# EAGLE library part ESP (library pcaroli)
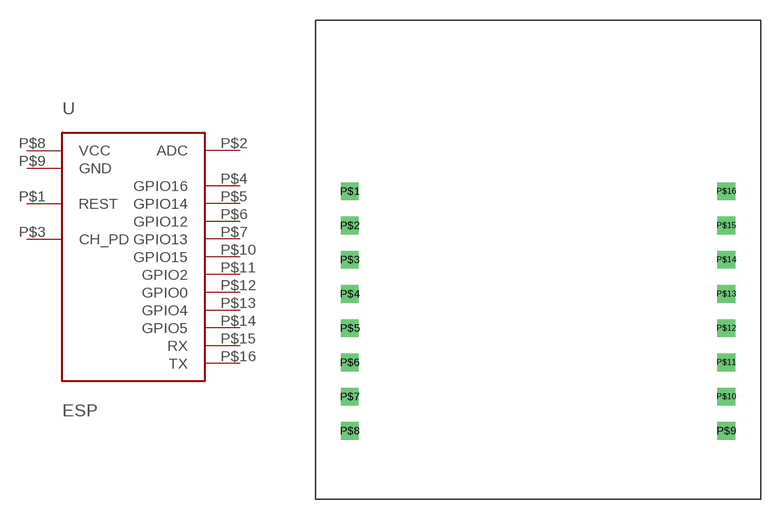
[diagram p11: symbol with the pads of ESP-WITTY; footprint ESP-WITTY]

Designator prefix -

## ESP  [ESP-WITTY]
P$1  REST
P$2  ADC
P$3  CH_PD
P$4  GPIO16
P$5  GPIO14
P$6  GPIO12
P$7  GPIO13
P$8  VCC
P$9  GND
P$10  GPIO15
P$11  GPIO2
P$12  GPIO0
P$13  GPIO4
P$14  GPIO5
P$15  RX
P$16  TX

## Footprint ESP-WITTY (pad centres in mm)
drill 0.8 square: P$1 0,0; P$2 0,-2.54; P$3 0,-5.08; P$4 0,-7.62; P$5 0,-10.16; P$6 0,-12.7; P$7 0,-15.24; P$8 0,-17.78; P$9 27.94,-17.78; P$10 27.94,-15.24; P$11 27.94,-12.7; P$12 27.94,-10.16; P$13 27.94,-7.62; P$14 27.94,-5.08; P$15 27.94,-2.54; P$16 27.94,0